# EAGLE library part CD4093BQM96Q1 (library Labops_Lib_AH)
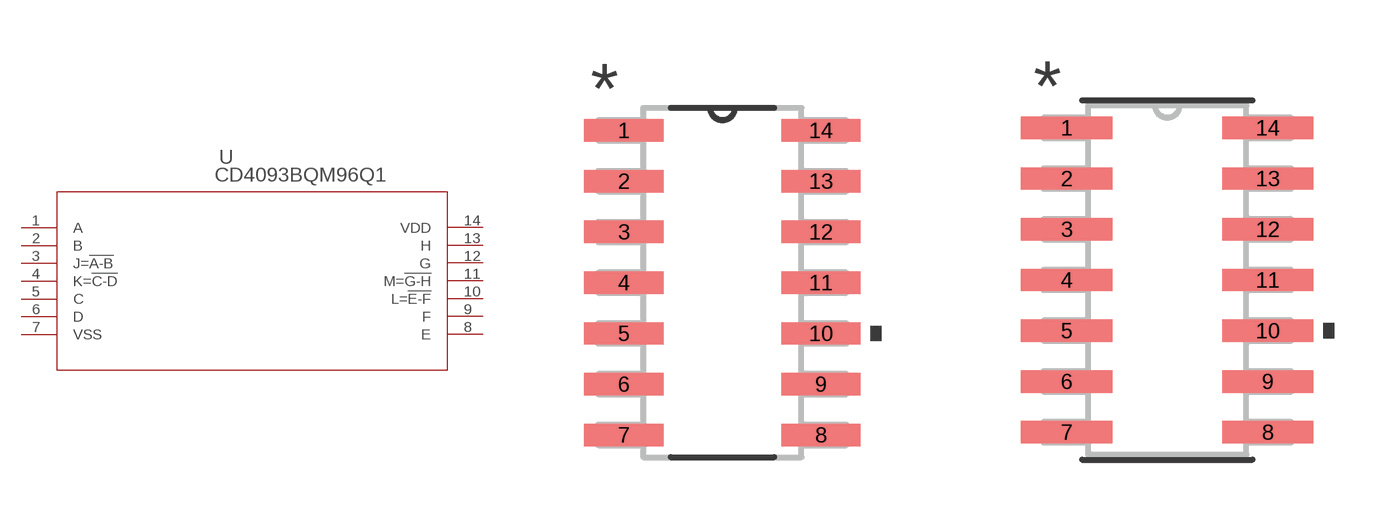
[diagram p63: symbol with the pads of D14; footprints D14, D14-M]

Designator prefix U

## CD4093BQM96Q1 (DATASHEET_URL: http://www.ti.com/lit/gpn/CD4093B-Q1; DESCRIPTION: Automotive Catalog CMOS Quad 2-Input NAND Schmitt Triggers; FAMILY_NAME: NAND GATE; GENERIC_PART_NUMBER: CD4093B-Q1; INDUSTRY_STD_PKG_TYPE: SOIC; MANUFACTURER: Texas Instruments; PACKAGE_DESIGNATOR: D; PIN_COUNT: 14)  [D14]
1  A  pas
2  B  pas
3  J=!A-B  pas
4  K=!C-D  pas
5  C  pas
6  D  pas
7  VSS  pwr
8  E  pas
9  F  pas
10  L=!E-F  pas
11  M=!G-H  pas
12  G  pas
13  H  pas
14  VDD  pwr

## CD4093BQM96Q1D14-M (DATASHEET_URL: http://www.ti.com/lit/gpn/CD4093B-Q1; DESCRIPTION: Automotive Catalog CMOS Quad 2-Input NAND Schmitt Triggers; FAMILY_NAME: NAND GATE; GENERIC_PART_NUMBER: CD4093B-Q1; INDUSTRY_STD_PKG_TYPE: SOIC; MANUFACTURER: Texas Instruments; PACKAGE_DESIGNATOR: D; PIN_COUNT: 14)  [D14-M]
Pads as for D14

## CD4093BQM96Q1D14-L (DATASHEET_URL: http://www.ti.com/lit/gpn/CD4093B-Q1; DESCRIPTION: Automotive Catalog CMOS Quad 2-Input NAND Schmitt Triggers; FAMILY_NAME: NAND GATE; GENERIC_PART_NUMBER: CD4093B-Q1; INDUSTRY_STD_PKG_TYPE: SOIC; MANUFACTURER: Texas Instruments; PACKAGE_DESIGNATOR: D; PIN_COUNT: 14)  [D14-L]
Pads as for D14

## Footprint D14 (pad centres in mm)
smd 1.981 x 0.559: 1 -2.464,3.81; 2 -2.464,2.54; 3 -2.464,1.27; 4 -2.464,0; 5 -2.464,-1.27; 6 -2.464,-2.54; 7 -2.464,-3.81; 8 2.464,-3.81; 9 2.464,-2.54; 10 2.464,-1.27; 11 2.464,0; 12 2.464,1.27; 13 2.464,2.54; 14 2.464,3.81

## Footprint D14-M (pad centres in mm)
smd 2.286 x 0.559: 1 -2.515,3.81; 2 -2.515,2.54; 3 -2.515,1.27; 4 -2.515,0; 5 -2.515,-1.27; 6 -2.515,-2.54; 7 -2.515,-3.81; 8 2.515,-3.81; 9 2.515,-2.54; 10 2.515,-1.27; 11 2.515,0; 12 2.515,1.27; 13 2.515,2.54; 14 2.515,3.81

## Footprint D14-L (pad centres in mm)
smd 1.676 x 0.508: 1 -2.413,3.81; 2 -2.413,2.54; 3 -2.413,1.27; 4 -2.413,0; 5 -2.413,-1.27; 6 -2.413,-2.54; 7 -2.413,-3.81; 8 2.413,-3.81; 9 2.413,-2.54; 10 2.413,-1.27; 11 2.413,0; 12 2.413,1.27; 13 2.413,2.54; 14 2.413,3.81